# Altium footprint library SparkFun-DigitalIC.PCBLIB: 112 footprints (part 2 of 7)
Each footprint in its own frame and in the unit in brackets; x right, y up, seen from the top. Pads: shape width x height; smd on the part's side, far side on the other; paste and mask are expansions set on the pad; w line width, h text height; cw(c..) or ccw(c..) is an arc to the next point about the centre after c.
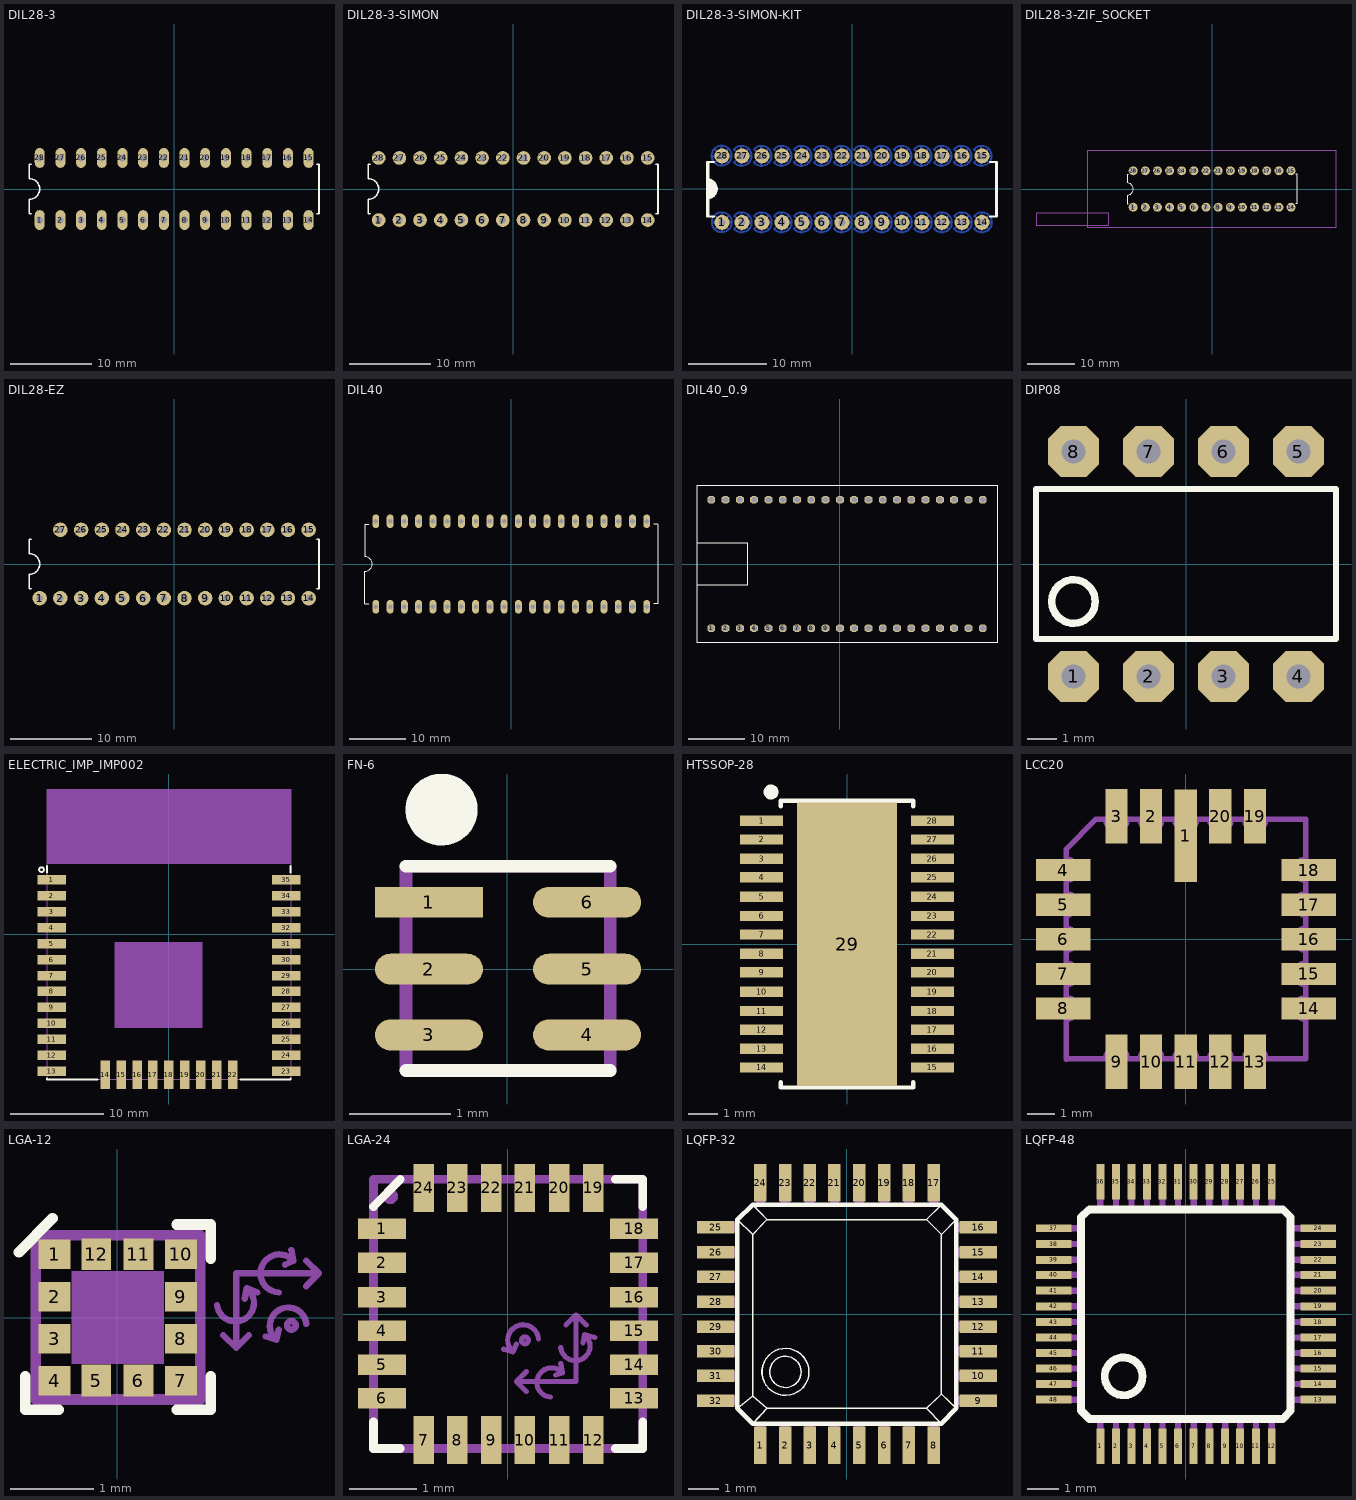
[diagram p1: the footprints below, top view; thin cyan lines are the x and y axes]

## DIL28-3 [mil]
pads (28):
  oval 48x96 hole 32: 1(-650,-150) 2(-550,-150) 3(-450,-150) 4(-350,-150) 5(-250,-150) 6(-150,-150) 7(-50,-150) 8(50,-150) 9(150,-150) 10(250,-150) 11(350,-150) 12(450,-150) 13(550,-150) 14(650,-150) 15(650,150) 16(550,150) 17(450,150) 18(350,150) 19(250,150) 20(150,150) 21(50,150) 22(-50,150) 23(-150,150) 24(-250,150) 25(-350,150) 26(-450,150) 27(-550,150) 28(-650,150)
Top Overlay:
  lines w8: -690,-120 -700,-120 -700,-50 ccw(c-700,0) -700,50 -700,120 -690,120 ; 690,-120 700,-120 700,120 690,120
Mechanical 2:
  text ">NAME" at -600,0 h37.2
Mechanical 4:
  text ">VALUE" at -600,-50 h37.2

## DIL28-3-SIMON [mil]
pads (28):
  round 66 hole 32: 1(-650,-150) 2(-550,-150) 3(-450,-150) 4(-350,-150) 5(-250,-150) 6(-150,-150) 7(-50,-150) 8(50,-150) 9(150,-150) 10(250,-150) 11(350,-150) 12(450,-150) 13(550,-150) 14(650,-150) 15(650,150) 16(550,150) 17(450,150) 18(350,150) 19(250,150) 20(150,150) 21(50,150) 22(-50,150) 23(-150,150) 24(-250,150) 25(-350,150) 26(-450,150) 27(-550,150) 28(-650,150)
Top Overlay:
  lines w8: -690,-120 -700,-120 -700,-50 ccw(c-700,0) -700,50 -700,120 -690,120 ; 690,-120 700,-120 700,120 690,120
Mechanical 2:
  text ">NAME" at -600,0 h37.2
Mechanical 4:
  text ">VALUE" at -600,-50 h37.2

## DIL28-3-SIMON-KIT [mil]
pads (28):
  round 75 hole 34: 1(-650,-167.5) 2(-550,-167.5) 3(-450,-167.5) 4(-350,-167.5) 5(-250,-167.5) 6(-150,-167.5) 7(-50,-167.5) 8(50,-167.5) 9(150,-167.5) 10(250,-167.5) 11(350,-167.5) 12(450,-167.5) 13(550,-167.5) 14(650,-167.5) 15(650,165) 16(550,165) 17(450,165) 18(350,165) 19(250,165) 20(150,165) 21(50,165) 22(-50,165) 23(-150,165) 24(-250,165) 25(-350,165) 26(-450,165) 27(-550,165) 28(-650,165)
Bottom Layer:
  circle w10: c-652,166 r50
  circle w10: c-651,-167 r50
  circle w10: c-652,166 r50
  circle w10: c-651,-167 r50
  lines w10: -701,165 -603,165 ; -700,-167 -603,-167 ; -688.36,201 -617.65,130 ; -686.36,131 -617.65,201 ; -685.36,-202.36 -615.65,-133.65 ; -685.36,-131.65 -615.65,-201.36 ; -653,117 -653,215 ; -650,-217 -650,-117 ; -554,115 -554,165 ; -554,214 -554,165 ; -553.5,-217.5 -553.5,-167.5 ; -553.5,-118.5 -553.5,-167.5 ; -552,164 -517,131 ; -551.5,-168.5 -516.5,-201.5 ; -518,201 -554,165 ; -517.5,-131.5 -553.5,-167.5 ; -504,165 -554,165 ; -503.5,-167.5 -553.5,-167.5 ; -454,115 -454,165 ; -454,214 -454,165 ; -453.5,-217.5 -453.5,-167.5 ; -453.5,-118.5 -453.5,-167.5 ; -452,164 -417,131 ; -451.5,-168.5 -416.5,-201.5 ; -418,201 -454,165 ; -417.5,-131.5 -453.5,-167.5 ; -404,165 -454,165 ; -403.5,-167.5 -453.5,-167.5 ; -354,115 -354,165 ; -354,214 -354,165 ; -353.5,-217.5 -353.5,-167.5 ; -353.5,-118.5 -353.5,-167.5 ; -352,164 -317,131 ; -351.5,-168.5 -316.5,-201.5 ; -318,201 -354,165 ; -317.5,-131.5 -353.5,-167.5 ; -304,165 -354,165 ; -303.5,-167.5 -353.5,-167.5 ; -254,115 -254,165 ; -254,214 -254,165 ; -253.5,-217.5 -253.5,-167.5 ; -253.5,-118.5 -253.5,-167.5 ; -252,164 -217,131 ; -251.5,-168.5 -216.5,-201.5 ; -218,201 -254,165 ; -217.5,-131.5 -253.5,-167.5 ; -204,165 -254,165 ; -203.5,-167.5 -253.5,-167.5 ; -154,115 -154,165 ; -154,214 -154,165 ; -153.5,-217.5 -153.5,-167.5 ; -153.5,-118.5 -153.5,-167.5 ; -152,164 -117,131 ; -151.5,-168.5 -116.5,-201.5 ; -118,201 -154,165 ; -117.5,-131.5 -153.5,-167.5 ; -104,165 -154,165 ; -103.5,-167.5 -153.5,-167.5 ; -54,115 -54,165 ; -54,214 -54,165 ; -53.5,-217.5 -53.5,-167.5 ; -53.5,-118.5 -53.5,-167.5 ; -52,164 -17,131 ; -51.5,-168.5 -16.5,-201.5 ; -18,201 -54,165 ; -17.5,-131.5 -53.5,-167.5 ; -4,165 -54,165 ; -3.5,-167.5 -53.5,-167.5 ; 46,115 46,165 ; 46,214 46,165 ; 47,-217.5 47,-167.5 ; 47,-118.5 47,-167.5 ; 48,164 83,131 ; 49,-168.5 84,-201.5 ; 82,201 46,165 ; 83,-131.5 47,-167.5 ; 96,165 46,165 ; 97,-167.5 47,-167.5 ; 146,115 146,165 ; 146,214 146,165 ; 147,-217.5 147,-167.5 ; 147,-118.5 147,-167.5 ; 148,164 183,131 ; 149,-168.5 184,-201.5 ; 182,201 146,165 ; 183,-131.5 147,-167.5 ; 196,165 146,165 ; 197,-167.5 147,-167.5 ; 246,115 246,165 ; 246,214 246,165 ; 247,-217.5 247,-167.5 ; 247,-118.5 247,-167.5 ; 248,164 283,131 ; 249,-168.5 284,-201.5 ; 282,201 246,165 ; 283,-131.5 247,-167.5 ; 296,165 246,165 ; 297,-167.5 247,-167.5 ; 346,115 346,165 ; 346,214 346,165 ; 347,-217.5 347,-167.5 ; 347,-118.5 347,-167.5 ; 348,164 383,131 ; 349,-168.5 384,-201.5 ; 382,201 346,165 ; 383,-131.5 347,-167.5 ; 396,165 346,165 ; 397,-167.5 347,-167.5 ; 446,115 446,165 ; 446,214 446,165 ; 447,-217.5 447,-167.5 ; 447,-118.5 447,-167.5 ; 448,164 483,131 ; 449,-168.5 484,-201.5 ; 482,201 446,165 ; 483,-131.5 447,-167.5 ; 496,165 446,165 ; 497,-167.5 447,-167.5 ; 546,115 546,165 ; 546,214 546,165 ; 547,-217.5 547,-167.5 ; 547,-118.5 547,-167.5 ; 548,164 583,131 ; 549,-168.5 584,-201.5 ; 582,201 546,165 ; 583,-131.5 547,-167.5 ; 596,165 546,165 ; 597,-167.5 547,-167.5 ; 646,115 646,165 ; 646,214 646,165 ; 647,-217.5 647,-167.5 ; 647,-118.5 647,-167.5 ; 648,164 683,131 ; 649,-168.5 684,-201.5 ; 682,201 646,165 ; 683,-131.5 647,-167.5 ; 696,165 646,165 ; 697,-167.5 647,-167.5 ; -590,133 ccw(c-551.7,165) -590,197 ; -590,133 ccw(c-551.7,165) -590,197 ; -590,133 -554,165 ; -590,197 -554,165 ; -589.5,-199.5 ccw(c-551.2,-167.5) -589.5,-135.5 ; -589.5,-199.5 ccw(c-551.2,-167.5) -589.5,-135.5 ; -589.5,-199.5 -553.5,-167.5 ; -589.5,-135.5 -553.5,-167.5 ; -490,133 ccw(c-451.7,165) -490,197 ; -490,133 ccw(c-451.7,165) -490,197 ; -490,133 -454,165 ; -490,197 -454,165 ; -489.5,-199.5 ccw(c-451.2,-167.5) -489.5,-135.5 ; -489.5,-199.5 ccw(c-451.2,-167.5) -489.5,-135.5 ; -489.5,-199.5 -453.5,-167.5 ; -489.5,-135.5 -453.5,-167.5 ; -390,133 ccw(c-351.7,165) -390,197 ; -390,133 ccw(c-351.7,165) -390,197 ; -390,133 -354,165 ; -390,197 -354,165 ; -389.5,-199.5 ccw(c-351.2,-167.5) -389.5,-135.5 ; -389.5,-199.5 ccw(c-351.2,-167.5) -389.5,-135.5 ; -389.5,-199.5 -353.5,-167.5 ; -389.5,-135.5 -353.5,-167.5 ; -290,133 ccw(c-251.7,165) -290,197 ; -290,133 ccw(c-251.7,165) -290,197 ; -290,133 -254,165 ; -290,197 -254,165 ; -289.5,-199.5 ccw(c-251.2,-167.5) -289.5,-135.5 ; -289.5,-199.5 ccw(c-251.2,-167.5) -289.5,-135.5 ; -289.5,-199.5 -253.5,-167.5 ; -289.5,-135.5 -253.5,-167.5 ; -190,133 ccw(c-151.7,165) -190,197 ; -190,133 ccw(c-151.7,165) -190,197 ; -190,133 -154,165 ; -190,197 -154,165 ; -189.5,-199.5 ccw(c-151.2,-167.5) -189.5,-135.5 ; -189.5,-199.5 ccw(c-151.2,-167.5) -189.5,-135.5 ; -189.5,-199.5 -153.5,-167.5 ; -189.5,-135.5 -153.5,-167.5 ; -90,133 ccw(c-51.7,165) -90,197 ; -90,133 ccw(c-51.7,165) -90,197 ; -90,133 -54,165 ; -90,197 -54,165 ; -89.5,-199.5 ccw(c-51.2,-167.5) -89.5,-135.5 ; -89.5,-199.5 ccw(c-51.2,-167.5) -89.5,-135.5 ; -89.5,-199.5 -53.5,-167.5 ; -89.5,-135.5 -53.5,-167.5 ; 10,133 ccw(c48.3,165) 10,197 ; 10,133 ccw(c48.3,165) 10,197 ; 10,133 46,165 ; 10,197 46,165 ; 11,-199.5 ccw(c49.3,-167.5) 11,-135.5 ; 11,-199.5 ccw(c49.3,-167.5) 11,-135.5 ; 11,-199.5 47,-167.5 ; 11,-135.5 47,-167.5 ; 110,133 ccw(c148.3,165) 110,197 ; 110,133 ccw(c148.3,165) 110,197 ; 110,133 146,165 ; 110,197 146,165 ; 111,-199.5 ccw(c149.3,-167.5) 111,-135.5 ; 111,-199.5 ccw(c149.3,-167.5) 111,-135.5 ; 111,-199.5 147,-167.5 ; 111,-135.5 147,-167.5 ; 210,133 ccw(c248.3,165) 210,197 ; 210,133 ccw(c248.3,165) 210,197 ; 210,133 246,165 ; 210,197 246,165 ; 211,-199.5 ccw(c249.3,-167.5) 211,-135.5 ; 211,-199.5 ccw(c249.3,-167.5) 211,-135.5 ; 211,-199.5 247,-167.5 ; 211,-135.5 247,-167.5 ; 310,133 ccw(c348.3,165) 310,197 ; 310,133 ccw(c348.3,165) 310,197 ; 310,133 346,165 ; 310,197 346,165 ; 311,-199.5 ccw(c349.3,-167.5) 311,-135.5 ; 311,-199.5 ccw(c349.3,-167.5) 311,-135.5 ; 311,-199.5 347,-167.5 ; 311,-135.5 347,-167.5 ; 410,133 ccw(c448.3,165) 410,197 ; 410,133 ccw(c448.3,165) 410,197 ; 410,133 446,165 ; 410,197 446,165 ; 411,-199.5 ccw(c449.3,-167.5) 411,-135.5 ; 411,-199.5 ccw(c449.3,-167.5) 411,-135.5 ; 411,-199.5 447,-167.5 ; 411,-135.5 447,-167.5 ; 510,133 ccw(c548.3,165) 510,197 ; 510,133 ccw(c548.3,165) 510,197 ; 510,133 546,165 ; 510,197 546,165 ; 511,-199.5 ccw(c549.3,-167.5) 511,-135.5 ; 511,-199.5 ccw(c549.3,-167.5) 511,-135.5 ; 511,-199.5 547,-167.5 ; 511,-135.5 547,-167.5 ; 610,133 ccw(c648.3,165) 610,197 ; 610,133 ccw(c648.3,165) 610,197 ; 610,133 646,165 ; 610,197 646,165 ; 611,-199.5 ccw(c649.3,-167.5) 611,-135.5 ; 611,-199.5 ccw(c649.3,-167.5) 611,-135.5 ; 611,-199.5 647,-167.5 ; 611,-135.5 647,-167.5
Top Overlay:
  lines w8: -720,45 -720,-45 -712.5,45 -712.5,-45 -705,43 -705,-42.5 -697.5,38 -697.5,-40 -692.5,33 -692.5,-32.5 -687.5,28 -687.5,-27.5 -682.5,20 -682.5,-15 ; -717.5,-135 -717.5,133 ; 718,-135 718,133 ; -725,-50 ccw(c-725,0) -725,50 cw(c-725,0) -725,-50
  lines w10: -690,-137.5 -725,-137.5 -725,-50 -725,50 -725,135 -690,135 ; 690,-137.5 725,-137.5 725,135 690,135
Top Solder:
  drawing of 56 lines, arcs and shapes, not listed
Bottom Solder:
  drawing of 56 lines, arcs and shapes, not listed
Mechanical 2:
  text ">NAME" at -600,-2.5 h37.2
  text ">NAME" at -600,-2.5 h37.2
Mechanical 4:
  text ">VALUE" at -600,-52.5 h37.2
  text ">VALUE" at -600,-52.5 h37.2

## DIL28-3-ZIF_SOCKET [mil]
pads (28):
  round 74 hole 40: 1(-650,-150) 2(-550,-150) 3(-450,-150) 4(-350,-150) 5(-250,-150) 6(-150,-150) 7(-50,-150) 8(50,-150) 9(150,-150) 10(250,-150) 11(350,-150) 12(450,-150) 13(550,-150) 14(650,-150) 15(650,150) 16(550,150) 17(450,150) 18(350,150) 19(250,150) 20(150,150) 21(50,150) 22(-50,150) 23(-150,150) 24(-250,150) 25(-350,150) 26(-450,150) 27(-550,150) 28(-650,150)
Top Overlay:
  lines w8: -690,-120 -700,-120 -700,-50 ccw(c-700,0) -700,50 -700,120 -690,120 ; 690,-120 700,-120 700,120 690,120
Mechanical 2:
  text ">NAME" at -600,0 h37.2
Mechanical 4:
  text ">VALUE" at -600,-50 h37.2
Mechanical 16:
  lines w5: -1027.99,-314.96 1020,-314.96 1020,315 -1027.99,315 -1027.99,-314.96
  lines w10: -1450,-300 -1450,-200 -850,-200 -850,-300 -1450,-300

## DIL28-EZ [mil]
pads (27):
  round 70 hole 32: 1(-650,-165) 2(-550,-165) 3(-450,-165) 4(-350,-165) 5(-250,-165) 6(-150,-165) 7(-50,-165) 8(50,-165) 9(150,-165) 10(250,-165) 11(350,-165) 12(450,-165) 13(550,-165) 14(650,-165) 15(650,165) 16(550,165) 17(450,165) 18(350,165) 19(250,165) 20(150,165) 21(50,165) 22(-50,165) 23(-150,165) 24(-250,165) 25(-350,165) 26(-450,165) 27(-550,165)
Top Overlay:
  lines w8: -690,-120 -700,-120 -700,-50 ccw(c-700,0) -700,50 -700,120 -690,120 ; 690,-120 700,-120 700,120 690,120
Top Solder:
  circle w0: c650,-165 r20
  circle w0: c-550,165 r20
  circle w0: c-450,165 r20
  circle w0: c-350,165 r20
  circle w0: c-250,165 r20
  circle w0: c-150,165 r20
  circle w0: c-50,165 r20
  circle w0: c50,165 r20
  circle w0: c150,165 r20
  circle w0: c250,165 r20
  circle w0: c350,165 r20
  circle w0: c450,165 r20
  circle w0: c550,165 r20
  circle w0: c650,165 r20
  circle w0: c-650,-165 r20
  circle w0: c-550,-165 r20
  circle w0: c-450,-165 r20
  circle w0: c-350,-165 r20
  circle w0: c-250,-165 r20
  circle w0: c-150,-165 r20
  circle w0: c-50,-165 r20
  circle w0: c50,-165 r20
  circle w0: c150,-165 r20
  circle w0: c250,-165 r20
  circle w0: c350,-165 r20
  circle w0: c450,-165 r20
  circle w0: c550,-165 r20
Bottom Solder:
  region: 0,0 10,0 10,10 0,10
  region: 0,0 10,0 10,10 0,10
  region: 0,0 10,0 10,10 0,10
  region: 0,0 10,0 10,10 0,10
  region: 0,0 10,0 10,10 0,10
  region: 0,0 10,0 10,10 0,10
  region: 0,0 10,0 10,10 0,10
  region: 0,0 10,0 10,10 0,10
  region: 0,0 10,0 10,10 0,10
  region: 0,0 10,0 10,10 0,10
  region: 0,0 10,0 10,10 0,10
  region: 0,0 10,0 10,10 0,10
  region: 0,0 10,0 10,10 0,10
  region: 0,0 10,0 10,10 0,10
  region: 0,0 10,0 10,10 0,10
  region: 0,0 10,0 10,10 0,10
  region: 0,0 10,0 10,10 0,10
  region: 0,0 10,0 10,10 0,10
  region: 0,0 10,0 10,10 0,10
  region: 0,0 10,0 10,10 0,10
  region: 0,0 10,0 10,10 0,10
  region: 0,0 10,0 10,10 0,10
  region: 0,0 10,0 10,10 0,10
  region: 0,0 10,0 10,10 0,10
  region: 0,0 10,0 10,10 0,10
  region: 0,0 10,0 10,10 0,10
  region: 0,0 10,0 10,10 0,10
Mechanical 2:
  text ">NAME" at -600,0 h37.2
Mechanical 4:
  text ">VALUE" at -600,-50 h37.2

## DIL40 [mil]
pads (40):
  oval 48x96 hole 32: 1(-950,-300) 2(-850,-300) 3(-750,-300) 4(-650,-300) 5(-550,-300) 6(-450,-300) 7(-350,-300) 8(-250,-300) 9(-150,-300) 10(-50,-300) 11(50,-300) 12(150,-300) 13(250,-300) 14(350,-300) 15(450,-300) 16(550,-300) 17(650,-300) 18(750,-300) 19(850,-300) 20(950,-300) 21(950,300) 22(850,300) 23(750,300) 24(650,300) 25(550,300) 26(450,300) 27(350,300) 28(250,300) 29(150,300) 30(50,300) 31(-50,300) 32(-150,300) 33(-250,300) 34(-350,300) 35(-450,300) 36(-550,300) 37(-650,300) 38(-750,300) 39(-850,300) 40(-950,300)
Top Overlay:
  lines w6: -1029,-50 -1029,-280 -1000,-280 ; -1029,50 -1029,280 -1000,280 ; -1025,-50 ccw(c-1025,0) -1025,50 ; 1000,-280 1029,-280 1029,280 1000,280
Mechanical 2:
  text ">NAME" at -900,-150 h24.8
Mechanical 4:
  text ">VALUE" at 950,-150 h24.8

## DIL40_0.9 [mil]
pads (40):
  oct 55x55 hole 40: 1(-900,-450) 2(-800,-450) 3(-700,-450) 4(-600,-450) 5(-500,-450) 6(-400,-450) 7(-300,-450) 8(-200,-450) 9(-100,-450) 10(0,-450) 11(100,-450) 12(200,-450) 13(300,-450) 14(400,-450) 15(500,-450) 16(600,-450) 17(700,-450) 18(800,-450) 19(900,-450) 20(1000,-450) 21(1000,450) 22(900,450) 23(800,450) 24(700,450) 25(600,450) 26(500,450) 27(400,450) 28(300,450) 29(200,450) 30(100,450) 31(0,450) 32(-100,450) 33(-200,450) 34(-300,450) 35(-400,450) 36(-500,450) 37(-600,450) 38(-700,450) 39(-800,450) 40(-900,450)
Top Overlay:
  lines w5: -1000,-150 -1000,-550 1100,-550 1100,550 -1000,550 -1000,150 ; -1000,-150 -1000,150 ; -1000,-150 -650,-150 -650,150 -1000,150
Mechanical 2:
  text ">NAME" at -1000,-150 h77.5
Mechanical 4:
  text ">VALUE" at -100,-50 h77.5

## DIP08 [mil]
pads (8):
  oct 68x68 hole 32: 1(-150,-150) 2(-50,-150) 3(50,-150) 4(150,-150) 5(150,150) 6(50,150) 7(-50,150) 8(-150,150)
Top Overlay:
  circle w10: c-150,-50 r29
  lines w8: -200,-40 -200,-60 ; -200,-60 -200,100 200,100 200,-100 -200,-100 -200,-60
Mechanical 2:
  text ">NAME" at -225,-150 h77.5
Mechanical 4:
  text ">VALUE" at -125,-25 h77.5

## ELECTRIC_IMP_IMP002 [mil]
pads (35):
  rect 119x40 smd: 1(-492.13,229) 2(-492.13,162) 3(-492.13,95) 4(-492.13,28) 5(-492.13,-39.37) 6(-492.13,-106.3) 7(-492.13,-173.23) 8(-492.13,-240.16) 9(-492.13,-307.09) 10(-492.13,-374.02) 11(-492.13,-440.94) 12(-492.13,-507.87) 13(-492.13,-574.8) 23(493,-574.8) 24(493,-507.87) 25(493,-440.94) 26(493,-374.02) 27(493,-307.09) 28(493,-240.16) 29(493,-173.23) 30(493,-106.3) 31(493,-39.37) 32(493,28) 33(493,95) 34(493,162) 35(493,229)
  rect 40x119 smd: 14(-267.72,-590.55) 15(-200.79,-590.55) 16(-133.86,-590.55) 17(-66.93,-590.55) 18(0,-590.55) 19(67,-590.55) 20(134,-590.55) 21(201,-590.55) 22(268,-590.55)
Top Overlay:
  circle w8: c-535.43,272 r10
  lines w8: -511.81,-606.3 -511.81,-610.24 -299.21,-610.24 ; -511.81,260 -511.81,288 ; 300,-610.24 512,-610.24 512,-606.3 ; 512,260 512,288
Mechanical 2:
  text ">NAME" at -354.33,158 h77.5
Mechanical 4:
  text ">VALUE" at -354.33,79 h77.5
Mechanical 16:
  rectangle: -511.81,296 512,611
  rectangle: -228.35,-393.7 142,-31.5
  lines w5: -511.81,-610.24 512,-610.24 512,611 -511.81,611 -511.81,-610.24

## FN-6 [mil]
pads (6):
  rect 42x12 smd: 1(-30.51,26)
  rrect100% 42x12 smd: 2(-30.51,0) 3(-30.51,-25.59) 4(31,-25.59) 5(31,0) 6(31,26)
Top Overlay:
  circle w12: c-25.59,62 r4
  circle w12: c-25.59,62 r8
  lines w5: -39.37,-39.37 40,-39.37 ; -39.37,40 40,40
Mechanical 2:
  text ">NAME" at 0,50 h24.8
Mechanical 4:
  text ">VALUE" at 0,-49.21 h24.8
Mechanical 16:
  lines w5: -39.37,-39.37 -39.37,40 40,40 40,-39.37 -39.37,-39.37

## HTSSOP-28 [mil]
pads (29):
  rect 58x14 smd: 1(-115,166) 2(-115,141) 3(-115,115) 4(-115,90) 5(-115,64) 6(-115,38) 7(-115,13) 8(-115,-13) 9(-115,-38) 10(-115,-64) 11(-115,-90) 12(-115,-115) 13(-115,-141) 14(-115,-166) 15(115,-166) 16(115,-141) 17(115,-115) 18(115,-90) 19(115,-64) 20(115,-38) 21(115,-13) 22(115,13) 23(115,38) 24(115,64) 25(115,90) 26(115,115) 27(115,141) 28(115,166)
  rect 134x382 smd: 29(0,0)
Top Overlay:
  circle w12: c-102.36,205 r4
  lines w6: -89,-186 -89,-193 89,-193 89,-186 ; -89,186 -89,193 -12,193 ; 89,186 89,193 12,193 ; -12,193 12,193 ; -12,193 ccw(c0,193) 12,193
Top Paste:
  rectangle: -59.06,-98.43 60,99
Top Solder:
  region: 61.53,-101.5 61.53,102.47 -61.5,102.47 -61.5,-101.5
Mechanical 2:
  text ">NAME" at -78.74,201 h27.2
Mechanical 4:
  text ">VALUE" at -98.43,-200.79 h27.2

## LCC20 [mil]
pads (20):
  rect 32x134 smd: 1(0,150)
  rect 32x79 smd: 2(-50,178) 3(-100,178) 9(-100,-177.17) 10(-50,-177.17) 11(0,-177.17) 12(50,-177.17) 13(100,-177.17) 19(100,178) 20(50,178)
  rect 79x32 smd: 4(-177.17,100) 5(-177.17,50) 6(-177.17,0) 7(-177.17,-50) 8(-177.17,-100) 14(178,-100) 15(178,-50) 16(178,0) 17(178,50) 18(178,100)
Mechanical 2:
  text ">NAME" at -137.68,229 h108.5
Mechanical 4:
  text ">VALUE" at -156.5,-302.64 h108.5
Mechanical 16:
  lines w8: -173.23,-173.62 -173.23,-173.23 ; -173.23,-115.75 -173.23,-173.23 ; -173.23,-84.25 -173.23,-65.75 ; -173.23,-34.25 -173.23,-15.75 ; -173.23,16 -173.23,35 ; -173.23,66 -173.23,85 ; -173.23,116 -173.23,130 -129.92,174 -115.75,174 ccw(c-100,174) -84.25,174 -65.75,174 ccw(c-50,174) -34.25,174 -15.75,174 ccw(c0.12,174) 16,174 35,174 ccw(c50.5,174) 66,174 85,174 ccw(c100.5,174) 116,174 174,174 174,116 ccw(c174,100.5) 174,85 174,66 ccw(c174,50.5) 174,35 174,16 ccw(c174,0.12) 174,-15.75 174,-34.25 ccw(c174,-50) 174,-65.75 174,-84.25 ccw(c174,-100) 174,-115.75 174,-173.23 116,-173.23 ; -173.17,-115.75 ccw(c-173.17,-100) -173.17,-84.25 ; -173.17,-65.75 ccw(c-173.17,-50) -173.17,-34.25 ; -173.17,-15.75 ccw(c-173.17,0.12) -173.17,16 ; -173.17,35 ccw(c-173.17,50.5) -173.17,66 ; -173.17,85 ccw(c-173.17,100.5) -173.17,116 ; -115.75,-173.23 -173.23,-173.23 ; -115.75,-173.17 cw(c-100,-173.17) -84.25,-173.17 ; -84.25,-173.23 -65.75,-173.23 ; -65.75,-173.17 cw(c-50,-173.17) -34.25,-173.17 ; -34.25,-173.23 -15.75,-173.23 ; -15.75,-173.17 cw(c0.12,-173.17) 16,-173.17 ; 16,-173.23 35,-173.23 ; 35,-173.17 cw(c50.5,-173.17) 66,-173.17 ; 66,-173.23 85,-173.23 ; 85,-173.17 cw(c100.5,-173.17) 116,-173.17

## LGA-12 [mil]
pads (12):
  rect 15x14 smd: 1(-29.53,30) 2(-29.53,10) 3(-29.53,-9.84) 4(-29.53,-29.53) 7(30,-29.53) 8(30,-9.84) 9(30,10) 10(30,30)
  rect 14x15 smd: 5(-9.84,-29.53) 6(10,-29.53) 11(10,30) 12(-9.84,30)
Top Overlay:
  lines w5: -46.26,31 -30.51,47 ; -43.31,-27.56 -43.31,-43.31 -27.56,-43.31 ; 28,-43.31 44,-43.31 44,-27.56 ; 28,44 44,44 44,28
Mechanical 2:
  text ">Name" at -3.94,57 h24.8
Mechanical 4:
  text ">Value" at -5.91,-57.68 h24.8
Mechanical 16:
  circle w3: c82,-3.5 r2
  rectangle: 5,25 15,35
  rectangle: -14.76,25 -4.92,35
  region: -24.03,5.58 -24.03,15.42 -35.03,15.42 -35.03,5.58
  region: -24.11,-14.76 -24.11,-4.92 -34.94,-4.92 -34.94,-14.76
  region: -24.11,-34.45 -24.11,-24.61 -34.94,-24.61 -34.94,-34.45
  region: -4.92,-24.11 -14.76,-24.11 -14.76,-34.94 -4.92,-34.94
  region: 15,-24.11 5,-24.11 5,-34.94 15,-34.94
  region: 24.59,-24.53 24.59,-34.53 35.41,-34.53 35.41,-24.53
  region: 24.59,-4.84 24.59,-14.84 35.41,-14.84 35.41,-4.84
  region: 24.5,15.5 24.5,5.5 35.5,5.5 35.5,15.5
  region: 25,35 25,25 35,25 35,35
  region: 0,0 10,0 10,10 0,10
  lines w3: 47,6 ccw(c55.66,7.1) 61,14 ; 50,-8.19 56,-14.09 62,-8.19 ; 56,-13.98 56,21 95,21 ; 60,9 61,14 ; 66,12 61,14 ; 70,-8.74 75,-10.31 ; 76,-5.59 75,-10.31 ; 76,12 cw(c76.39,20.95) 83,27 ; 79,25 83,27 ; 82,32 83,27 ; 89,-2.83 ccw(c80.45,-3.68) 75,-10.32 ; 89,15 95,21 ; 89,27 95,21
  lines w5: -38.39,-38.39 -38.39,39 39,39 39,-38.39 -38.39,-38.39
  text "X" at 102,21 h18.6
  text "Y" at 56,-23.23 h18.6
  text "Z" at 89,-11.77 h18.6
Mechanical 27:
  rectangle: -21.65,-21.65 22,22

## LGA-24 [mil]
pads (24):
  rect 28x12 smd: 1(-73.82,50) 2(-73.82,30) 3(-73.82,10) 4(-73.82,-9.84) 5(-73.82,-29.53) 6(-73.82,-49.21) 13(74,-49.21) 14(74,-29.53) 15(74,-9.84) 16(74,10) 17(74,30) 18(74,50)
  rect 12x28 smd: 7(-49.21,-73.82) 8(-29.53,-73.82) 9(-9.84,-73.82) 10(10,-73.82) 11(30,-73.82) 12(50,-73.82) 19(50,74) 20(30,74) 21(10,74) 22(-9.84,74) 23(-29.53,74) 24(-49.21,74)
Top Overlay:
  lines w5: -78.74,-62.99 -78.74,-78.74 -62.99,-78.74 ; -78.74,63 -62.99,79 ; 63,-78.74 79,-78.74 79,-62.99 ; 63,79 79,79 79,63
Mechanical 2:
  text ">Name" at 0,45 h24.8
Mechanical 4:
  text ">Value" at 0,25 h24.8
Mechanical 16:
  circle w5: c-68.9,69 r2
  circle w3: c10,-15.31 r2
  rectangle: -13.78,-74.8 -5.91,-61.02
  rectangle: 6,-74.8 14,-61.02
  rectangle: 26,-74.8 34,-61.02
  rectangle: 46,-74.8 54,-61.02
  rectangle: -33.46,-74.8 -25.59,-61.02
  rectangle: -53.15,-74.8 -45.28,-61.02
  region: 14,75 6,75 6,62 14,62
  region: -5.91,75 -13.78,75 -13.78,62 -5.91,62
  region: -25.59,75 -33.46,75 -33.46,62 -25.59,62
  region: -45.28,75 -53.15,75 -53.15,62 -45.28,62
  region: 34,75 26,75 26,62 34,62
  region: 54,75 46,75 46,62 54,62
  rectangle: -74.8,6 -61.02,14
  rectangle: -74.8,-13.78 -61.02,-5.91
  rectangle: -74.8,26 -61.02,34
  rectangle: -74.8,46 -61.02,54
  rectangle: -74.8,-33.46 -61.02,-25.59
  rectangle: -74.8,-53.15 -61.02,-45.28
  region: 75,-5.91 62,-5.91 62,-13.78 75,-13.78
  region: 75,14 62,14 62,6 75,6
  region: 75,-25.59 62,-25.59 62,-33.46 75,-33.46
  region: 75,-45.28 62,-45.28 62,-53.15 75,-53.15
  region: 75,34 62,34 62,26 75,26
  region: 75,54 62,54 62,46 75,46
  lines w3: -2.6,-20.55 3,-22.13 ; 5,-17.4 3,-22.13 ; 11,-45.43 5,-39.53 ; 11,-33.62 5,-39.53 ; 18,-14.65 ccw(c8.95,-15.28) 3,-22.13 ; 25,-48.58 cw(c25.56,-40.05) 32,-34.41 ; 28,-35.59 32,-34.41 ; 31,-28.9 32,-34.41 ; 31,-19.51 ccw(c39.55,-18.67) 45,-12.03 ; 34,-6.38 40,-0.47 ; 44,-16.76 45,-12.03 ; 46,-6.38 40,-0.47 ; 51,-13.61 45,-12.03 ; 5,-39.53 40,-39.53 40,-0.47
  lines w5: -78.74,-78.74 -78.74,79 79,79 79,-78.74 -78.74,-78.74
  text "X" at 40,7 h18.6
  text "Y" at -1.97,-39.37 h18.6
  text "Z" at -8.74,-5.87 h18.6

## LQFP-32 [mil]
pads (32):
  rect 16x48 smd: 1(-110.24,-167.32) 2(-78.74,-167.32) 3(-47.24,-167.32) 4(-15.75,-167.32) 5(16,-167.32) 6(48,-167.32) 7(79,-167.32) 8(111,-167.32) 17(111,168) 18(79,168) 19(48,168) 20(16,168) 21(-15.75,168) 22(-47.24,168) 23(-78.74,168) 24(-110.24,168)
  rect 48x16 smd: 9(168,-110.24) 10(168,-78.74) 11(168,-47.24) 12(168,-15.75) 13(168,16) 14(168,48) 15(168,79) 16(168,111) 25(-167.32,111) 26(-167.32,79) 27(-167.32,48) 28(-167.32,16) 29(-167.32,-15.75) 30(-167.32,-47.24) 31(-167.32,-78.74) 32(-167.32,-110.24)
Top Overlay:
  circle w2: c-78.35,-73.66 r30
  circle w2: c-78.35,-73.66 r20
  lines w2: -139.76,-120.08 -120.08,-104.33 ; -139.76,121 -120.08,102 ; -120.08,-139.76 -101.97,-120.08 ; -120.08,140 -101.97,121 ; 121,-139.76 102,-120.08 ; 121,140 102,121 ; 140,-120.08 121,-101.97 ; 140,121 121,102 ; -120.08,-104.33 -120.08,102 ; -120.08,-104.33 -101.97,-120.08 ; -120.08,102 -101.97,121 ; -101.97,-120.08 102,-120.08 ; -101.97,121 102,121 ; 102,-120.08 121,-101.97 ; 102,121 121,102 ; 121,-101.97 121,102
  lines w6: -139.76,-120.08 -120.08,-139.76 121,-139.76 140,-120.08 140,121 121,140 -120.08,140 -139.76,121 -139.76,-120.08
Mechanical 2:
  text ">NAME" at -120.75,210 h77.5
Mechanical 4:
  text ">VALUE" at -125.75,-255.75 h77.5
Mechanical 16:
  rectangle: -116.14,140 -104.33,178
  rectangle: -84.65,140 -72.83,178
  rectangle: -53.15,140 -41.34,178
  rectangle: -21.65,140 -9.84,178
  rectangle: 10,140 22,178
  rectangle: 42,140 54,178
  rectangle: 73,140 85,178
  rectangle: 105,140 117,178
  rectangle: 140,105 178,117
  rectangle: 140,73 178,85
  rectangle: 140,42 178,54
  rectangle: 140,10 178,22
  rectangle: 140,-21.65 178,-9.84
  rectangle: 140,-53.15 178,-41.34
  rectangle: 140,-84.65 178,-72.83
  rectangle: 140,-116.14 178,-104.33
  rectangle: 105,-177.17 117,-139.76
  rectangle: 73,-177.17 85,-139.76
  rectangle: 42,-177.17 54,-139.76
  rectangle: 10,-177.17 22,-139.76
  rectangle: -21.65,-177.17 -9.84,-139.76
  rectangle: -53.15,-177.17 -41.34,-139.76
  rectangle: -84.65,-177.17 -72.83,-139.76
  rectangle: -116.14,-177.17 -104.33,-139.76
  rectangle: -177.17,-116.14 -139.76,-104.33
  rectangle: -177.17,-84.65 -139.76,-72.83
  rectangle: -177.17,-53.15 -139.76,-41.34
  rectangle: -177.17,-23.62 -139.76,-9.84
  rectangle: -177.17,8 -139.76,22
  rectangle: -177.17,42 -139.76,54
  rectangle: -177.17,73 -139.76,85
  rectangle: -177.17,105 -139.76,117

## LQFP-48 [mil]
pads (48):
  rect 10x45 smd: 1(-108.27,-167.32) 2(-88.58,-167.32) 3(-68.9,-167.32) 4(-49.21,-167.32) 5(-29.53,-167.32) 6(-9.84,-167.32) 7(10,-167.32) 8(30,-167.32) 9(50,-167.32) 10(69,-167.32) 11(89,-167.32) 12(109,-167.32) 25(109,168) 26(89,168) 27(69,168) 28(50,168) 29(30,168) 30(10,168) 31(-9.84,168) 32(-29.53,168) 33(-49.21,168) 34(-68.9,168) 35(-88.58,168) 36(-108.27,168)
  rect 45x10 smd: 13(168,-108.27) 14(168,-88.58) 15(168,-68.9) 16(168,-49.21) 17(168,-29.53) 18(168,-9.84) 19(168,10) 20(168,30) 21(168,50) 22(168,69) 23(168,89) 24(168,109) 37(-167.32,109) 38(-167.32,89) 39(-167.32,69) 40(-167.32,50) 41(-167.32,30) 42(-167.32,10) 43(-167.32,-9.84) 44(-167.32,-29.53) 45(-167.32,-49.21) 46(-167.32,-68.9) 47(-167.32,-88.58) 48(-167.32,-108.27)
Top Overlay:
  circle w10: c-78.74,-78.74 r24
  lines w10: -132.87,-122.05 -122.05,-132.87 123,-132.87 133,-122.05 133,123 123,133 -122.05,133 -132.87,123 -132.87,-122.05
Mechanical 2:
  text ">NAME" at -150,200 h24.8
Mechanical 4:
  text ">VALUE" at -150,-250 h24.8
Mechanical 16:
  rectangle: -112.2,-177.17 -104.33,-135.83
  rectangle: -92.52,-177.17 -84.65,-135.83
  rectangle: -72.83,-177.17 -64.96,-135.83
  rectangle: -53.15,-177.17 -45.28,-135.83
  rectangle: -33.46,-177.17 -25.59,-135.83
  rectangle: -13.78,-177.17 -5.91,-135.83
  rectangle: 6,-177.17 14,-135.83
  rectangle: 26,-177.17 34,-135.83
  rectangle: 46,-177.17 54,-135.83
  rectangle: 65,-177.17 73,-135.83
  rectangle: 85,-177.17 93,-135.83
  rectangle: 105,-177.17 113,-135.83
  rectangle: 136,-112.2 178,-104.33
  rectangle: 136,-92.52 178,-84.65
  rectangle: 136,-72.83 178,-64.96
  rectangle: 136,-53.15 178,-45.28
  rectangle: 136,-33.46 178,-25.59
  rectangle: 136,-13.78 178,-5.91
  rectangle: 136,6 178,14
  rectangle: 136,26 178,34
  rectangle: 136,46 178,54
  rectangle: 136,65 178,73
  rectangle: 136,85 178,93
  rectangle: 136,105 178,113
  rectangle: 105,136 113,178
  rectangle: 85,136 93,178
  rectangle: 65,136 73,178
  rectangle: 46,136 54,178
  rectangle: 26,136 34,178
  rectangle: 6,136 14,178
  rectangle: -13.78,136 -5.91,178
  rectangle: -33.46,136 -25.59,178
  rectangle: -53.15,136 -45.28,178
  rectangle: -72.83,136 -64.96,178
  rectangle: -92.52,136 -84.65,178
  rectangle: -112.2,136 -104.33,178
  rectangle: -177.17,105 -135.83,113
  rectangle: -177.17,85 -135.83,93
  rectangle: -177.17,65 -135.83,73
  rectangle: -177.17,46 -135.83,54
  rectangle: -177.17,26 -135.83,34
  rectangle: -177.17,6 -135.83,14
  rectangle: -177.17,-13.78 -135.83,-5.91
  rectangle: -177.17,-33.46 -135.83,-25.59
  rectangle: -177.17,-53.15 -135.83,-45.28
  rectangle: -177.17,-72.83 -135.83,-64.96
  rectangle: -177.17,-92.52 -135.83,-84.65
  rectangle: -177.17,-112.2 -135.83,-104.33